# EAGLE library part WESP32R3 (library wESP32)
SILICOGNITION WESP32 REV 3 LIBRARY FOOTPRINT BY MECHATRONIKS https://github.com/mechatroniks-git/eagle-libraries
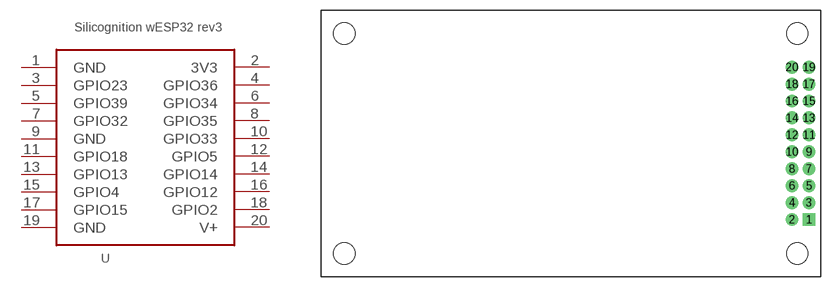
[diagram p0: symbol with the pads of WESP32R3; footprint WESP32R3]

Designator prefix -

## WESP32R3  [WESP32R3]
1  GND  pwr
2  3V3  pwr
3  GPIO23
4  GPIO36  in
5  GPIO39  in
6  GPIO34  in
7  GPIO32
8  GPIO35  in
9  GND  pwr
10  GPIO33
11  GPIO18
12  GPIO5
13  GPIO13
14  GPIO14
15  GPIO4
16  GPIO12
17  GPIO15
18  GPIO2
19  GND  pwr
20  V+  pwr

## Footprint WESP32R3 (pad centres in mm)
SILICOGNITION WESP32 REV 3
drill 1 pad 1.93 square: 1 35.77,-11.43
drill 1 pad 1.93: 2 33.23,-11.43; 3 35.77,-8.89; 4 33.23,-8.89; 5 35.77,-6.35; 6 33.23,-6.35; 7 35.77,-3.81; 8 33.23,-3.81; 9 35.77,-1.27; 10 33.23,-1.27; 11 35.77,1.27; 12 33.23,1.27; 13 35.77,3.81; 14 33.23,3.81; 15 35.77,6.35; 16 33.23,6.35; 17 35.77,8.89; 18 33.23,8.89; 19 35.77,11.43; 20 33.23,11.43
hole 3.2 at 34,-16.5
hole 3.2 at -34,-16.5
hole 3.2 at 34,16.5
hole 3.2 at -34,16.5